# Altium integrated library PCF85063AT.IntLib: 1 symbol
Pins are listed as number, name and electrical type; pins without a type are passive.

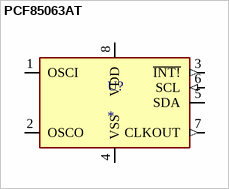
[diagram p0: symbol PCF85063AT]

## PCF85063AT
designator U?
<H2>Tiny Real-Time Clock/calendar with alarm function and I2C-bus</H2> The PCF85063A is a CMOS1 Real-Time Clock (RTC) and calendar optimized for low  power consumption. An offset register allows fine-tuning of the clock. All addresses and  data are transferred serially via the two-line bidirectional I2C-bus. Maximum data rate is  400 kbit/s. The register address is incremented automatically after each written or read  data byte. <p><author>AAL Eindhoven MK</author><hr><p>  <img src="http://www.nxp.com/img/NXP_logo.png">; MF: NXP Semiconductors; MP: PCF85063AT; Purchase-URL: https://pricing.snapeda.com/search/part/PCF85063AT/?ref=eda; Package: None; Check_prices: https://www.snapeda.com/parts/PCF85063AT/Nexperia/view-part/?ref=eda; Value: *; SnapEDA_Link: https://www.snapeda.com/parts/PCF85063AT/Nexperia/view-part/?ref=snap; Availability: In Stock; Price: None
footprint SOT96-1
pins: 1 OSCI, 2 OSCO, 3 ~{INT!} (out), 4 VSS (power), 5 SDA (io), 6 SCL (in), 7 CLKOUT (out), 8 VDD (power)